# Altium schematic symbol library HVConnector.SchLib: 3 symbols
Pins are listed as number, name and electrical type; pins without a type are passive.

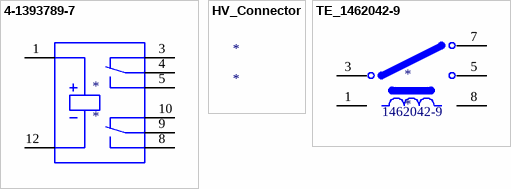
[diagram p0: symbols 4-1393789-7 to TE_1462042-9]

## 4-1393789-7
designator *
footprint RELAY_4-1393789-7
pins: 1, 3, 4, 5, 8, 9, 10, 12

## HV_Connector
designator *

## TE_1462042-9
designator *
footprint TE_1462042-9_0
pins: 1, 3, 5, 7, 8
text: 1462042-9